# EAGLE library part XFMR_T80_RFC_FB (library NewSDR)
Bifilar Wound RF Choke Transformer with Single Turn Feedback
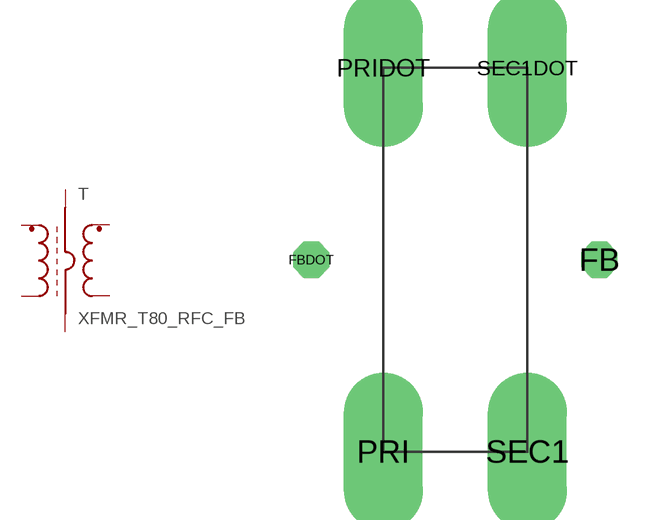
[diagram p71: symbol with the pads of T80_T_DUALSEC; footprint T80_T_DUALSEC]

Designator prefix T

## XFMR_T80_RFC_FB  [T80_T_DUALSEC]
FB  FB  pas
FBDOT  FBDOT  pas
PRI  PRI  pas
PRIDOT  PRIDOT  pas
SEC1  SEC  pas
SEC1DOT  SECDOT  pas

## Footprint T80_T_DUALSEC (pad centres in mm)
T80 Bifilar Wound RF Choke Transformer with Dual Secondary
drill 1.27 octagon: FB 7.62,0; FBDOT -7.62,0
drill 3.175 long: PRI -3.81,-10.16; PRIDOT -3.81,10.16; SEC1 3.81,-10.16; SEC1DOT 3.81,10.16